# Altium integrated library Allegro Sensor Fluid Detector.IntLib: 1 symbol
Pins are listed as number, name and electrical type; pins without a type are passive.

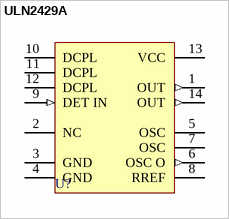
[diagram p0: symbol ULN2429A]

## ULN2429A
designator U?
Fluid Detector; ComponentAvailability: Obsolete; Published: 13-Oct-2000; LatestRevisionDate: 06-Jun-2005; LatestRevisionNote: Stylized 3D Model Added.; DatasheetVersion: 1995; PackageVersion: 1995; PackageReference: A14; Publisher: Altium Limited; PackageDescription: DIP; 14 Leads; Row Spacing 7.62 mm; Pitch 2.54 mm; ComponentLink1Description: Manufacturer Link; ComponentLink1URL: http://www.allegromicro.com/; ComponentLink2Description: Datasheet; ComponentLink2URL: http://www.allegromicro.com/datafile/archive/2429.pdf
footprint A14 (DIP; 14 Leads; Row Spacing 7.62 mm; Pitch 2.54 mm)
3D model A14 (DIP; 14 Leads; Row Spacing 7.62 mm; Pitch 2.54 mm)
pins: 1 OUT (out), 2 NC, 3 GND (power), 4 GND (power), 5 OSC, 6 OSC O (out), 7 OSC, 8 RREF, 9 DET IN (in), 10 DCPL, 11 DCPL, 12 DCPL, 13 VCC (power), 14 OUT (out)